# Altium footprint library GAP_Shield.PcbLib: 21 footprints (part 1 of 2)
Each footprint in its own frame and in the unit in brackets; x right, y up, seen from the top. Pads: shape width x height; smd on the part's side, far side on the other; paste and mask are expansions set on the pad; w line width, h text height; cw(c..) or ccw(c..) is an arc to the next point about the centre after c.
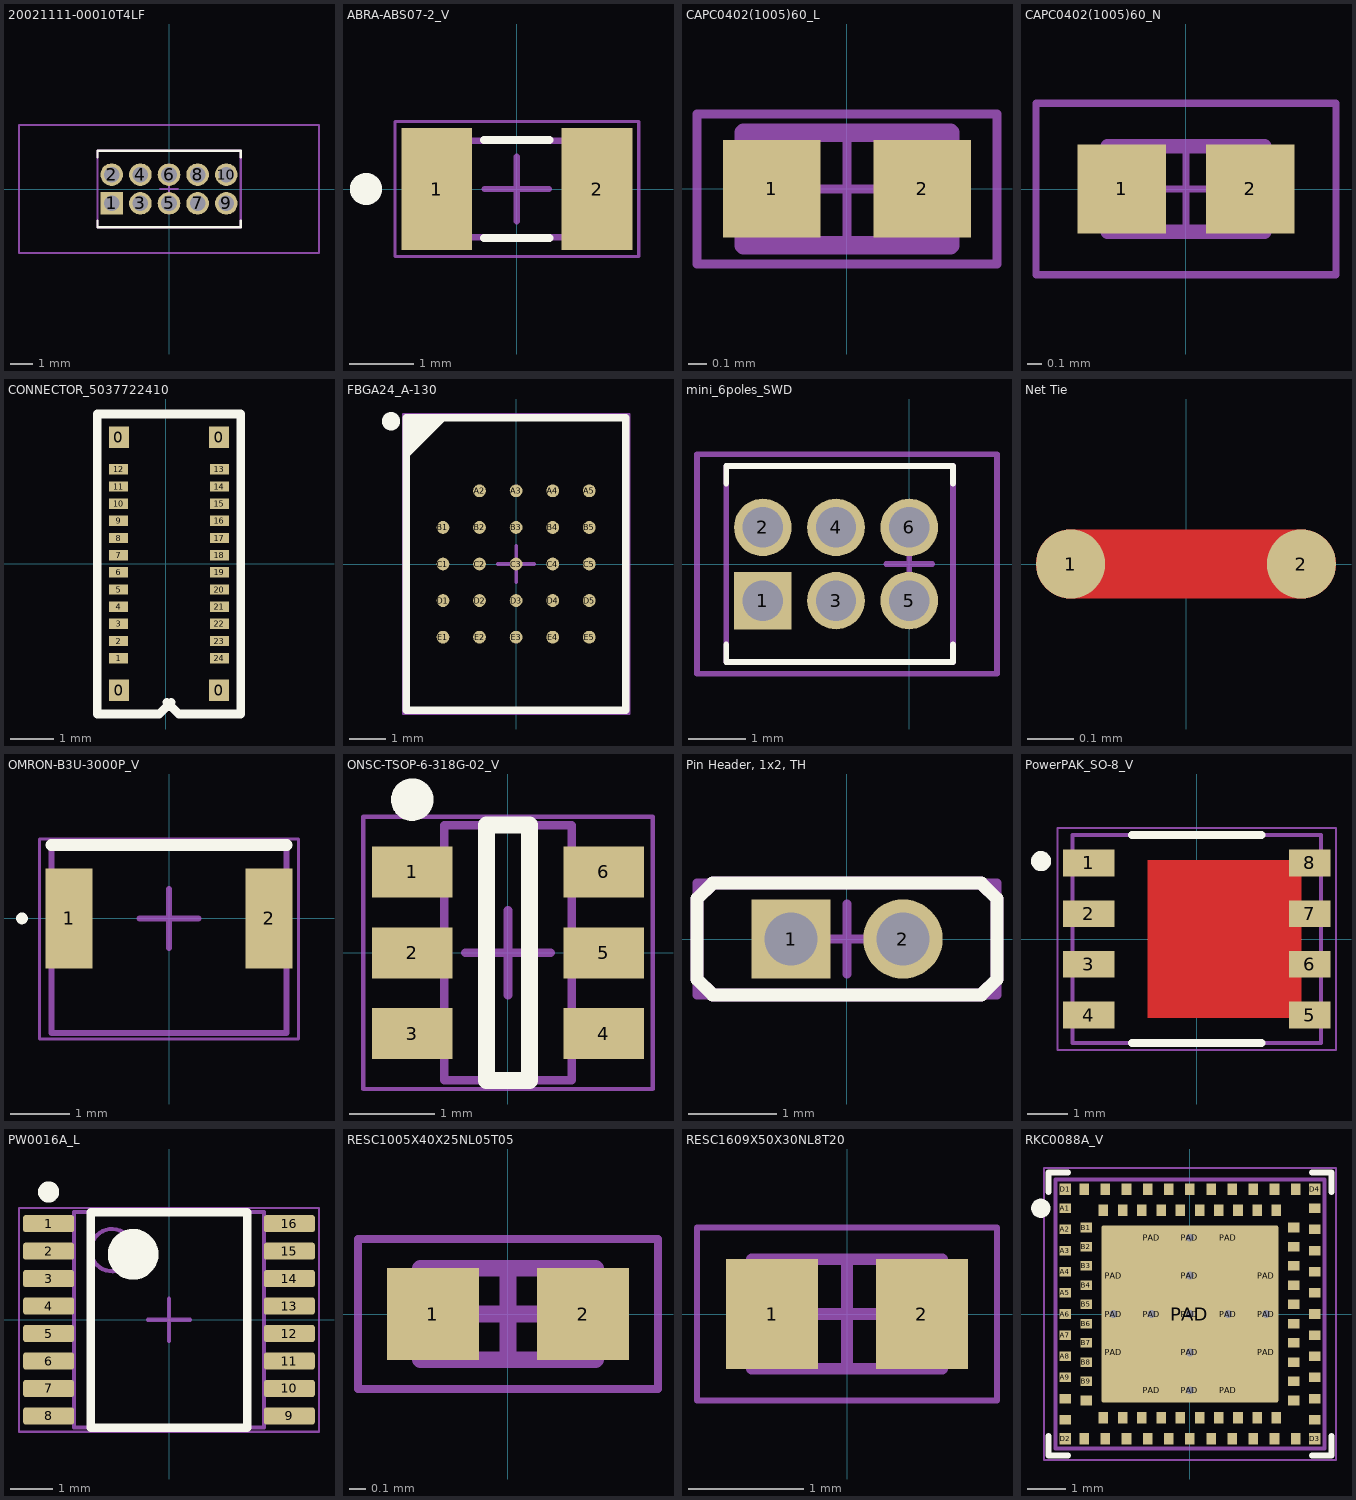
[diagram p0: the footprints below, top view; thin cyan lines are the x and y axes]

## 20021111-00010T4LF [mm] "Terminal Assembly, 2x5 Pin, Vertical, 1.27mm Pitch, Male"
height 5.55
pads (10):
  rect 1x1 hole 0.7: 1(-2.54,-0.635)
  round 1 hole 0.7: 2(-2.54,0.635) 3(-1.27,-0.635) 4(-1.27,0.635) 5(0,-0.635) 6(0,0.635) 7(1.27,-0.635) 8(1.27,0.635) 9(2.54,-0.635) 10(2.54,0.635)
Top Overlay:
  lines w0.1: -3.175,-1.397 -3.175,-1.7 3.175,-1.7 3.175,-1.397 ; -3.175,1.397 -3.175,1.7 3.175,1.7 3.175,1.397
Mechanical 12:
  lines w0.1: -3.175,-1.7 3.175,-1.7 3.175,1.7 -3.175,1.7 -3.175,-1.7
Mechanical 15:
  lines w0.1: -0.4,0 0.4,0 ; 0,-0.4 0,0.4 ; -6.65,-2.84 -6.35,-2.84 -3.81,-2.84 -1.27,-2.84 6.35,-2.84 6.65,-2.84 6.65,-2.54 6.65,2.54 6.65,2.84 6.35,2.84 -1.27,2.84 -3.81,2.84 -6.35,2.84 -6.65,2.84 -6.65,2.54 -6.65,-2.54 -6.65,-2.84
3D body: height 5.51, standoff -2.34, extent -3.175,-1.7 3.175,1.7

## ABRA-ABS07-2_V [mm] "Crystal, 2-Leads, Body 3.2x1.5mm, Pitch 2.5mm"
height 0.9
pads (2):
  rect 1.1x1.9 smd: 1(-1.25,0) 2(1.25,0)
Top Overlay:
  circle w0.25: c-2.35,0 r0.125
  lines w0.125: -0.508,-0.762 0.508,-0.762 ; -0.508,0.762 0.508,0.762
Mechanical 12:
  lines w0.1: -1.6,-0.75 1.6,-0.75 1.6,0.75 -1.6,0.75 -1.6,-0.75
Mechanical 15:
  lines w0.05: -1.9,-1.05 1.9,-1.05 1.9,1.05 -1.9,1.05 -1.9,-1.05
  lines w0.1: -0.5,0 0.5,0 ; 0,-0.5 0,0.5
3D body: height 0.9, standoff 0.01, extent -1.6,-0.749 1.6,0.749

## CAPC0402(1005)60_L [mm] "Chip Capacitor, Body 1.0x0.5mm, Height 0.6mm, IPC High Density"
height 0.6
pads (2):
  rect 0.52x0.52 smd: 1(-0.4,0) 2(0.4,0)
Mechanical 13:
  lines w0.1: -0.55,-0.3 -0.55,0.3 0.55,0.3 0.55,-0.3 -0.55,-0.3
Mechanical 15:
  lines w0.05: -0.3,0 0.3,0 ; 0,-0.3 0,0.3 ; -0.8,-0.4 -0.8,0.4 0.8,0.4 0.8,-0.4 -0.8,-0.4
3D body: height 0.6, standoff 0, extent -0.3,-0.3 0.3,0.3
3D body: height 0.6, standoff 0, extent -0.55,-0.3 -0.3,0.3
3D body: height 0.6, standoff 0, extent 0.3,-0.3 0.55,0.3

## CAPC0402(1005)60_N [mm] "Chip Capacitor, Body 1.0x0.5mm, Height 0.6mm, IPC Medium Density"
height 0.6
pads (2):
  rect 0.62x0.62 smd: 1(-0.45,0) 2(0.45,0)
Mechanical 13:
  lines w0.1: -0.55,-0.3 -0.55,0.3 0.55,0.3 0.55,-0.3 -0.55,-0.3
Mechanical 15:
  lines w0.05: -0.3,0 0.3,0 ; 0,-0.3 0,0.3 ; -1.05,-0.6 -1.05,0.6 1.05,0.6 1.05,-0.6 -1.05,-0.6
3D body: height 0.6, standoff 0, extent -0.3,-0.3 0.3,0.3
3D body: height 0.6, standoff 0, extent -0.55,-0.3 -0.3,0.3
3D body: height 0.6, standoff 0, extent 0.3,-0.3 0.55,0.3

## CONNECTOR_5037722410 [mm]
pads (28):
  rect 0.47x0.5 smd mask+0.102: 0(-1.09,2.95) 0(-1.09,-2.95) 0(1.24,-2.95) 0(1.24,2.95)
  rect 0.45x0.24 smd mask+0.025: 1(-1.1,-2.2) 2(-1.1,-1.8) 3(-1.1,-1.4) 4(-1.1,-1) 5(-1.1,-0.6) 6(-1.1,-0.2) 7(-1.1,0.2) 8(-1.1,0.6) 9(-1.1,1) 10(-1.1,1.4) 11(-1.1,1.8) 12(-1.1,2.2) 13(1.25,2.2) 14(1.25,1.8) 15(1.25,1.4) 16(1.25,1) 17(1.25,0.6) 18(1.25,0.2) 19(1.25,-0.2) 20(1.25,-0.6) 21(1.25,-1) 22(1.25,-1.4) 23(1.25,-1.8) 24(1.25,-2.2)
Top Overlay:
  lines w0.2: 0.025,-3.225 0.3,-3.5 1.75,-3.5 1.75,3.49 -1.6,3.49 -1.6,-3.5 -0.15,-3.5 0.125,-3.225

## FBGA24_A-130 [mm] "BGA, 24-Balls, Body 8x6mm, Pitch 1mm, A1 missing"
height 1.3
pads (24):
  round 0.35 smd paste-0.5: A2(-1,2) A3(0,2) A4(1,2) A5(2,2) B1(-2,1) B2(-1,1) B3(0,1) B4(1,1) B5(2,1) C1(-2,0) C2(-1,0) C3(0,0) C4(1,0) C5(2,0) D1(-2,-1) D2(-1,-1) D3(0,-1) D4(1,-1) D5(2,-1) E1(-2,-2) E2(-1,-2) E3(0,-2) E4(1,-2) E5(2,-2)
Top Overlay:
  circle w0.25: c-3.419,3.902 r0.125
  region: -2,4 -3,3 -3,4
  lines w0.2: -3,3 -2,4 ; -3,-4 3,-4 3,4 -3,4 -3,-4
Mechanical 12:
  lines w0.1: -3,-4 3,-4 3,4 -3,4 -3,-4
Mechanical 15:
  lines w0.05: -3.1,-4.1 3.1,-4.1 3.1,4.1 -3.1,4.1 -3.1,-4.1
  lines w0.1: -0.5,0 0.5,0 ; 0,-0.5 0,0.5
3D body: height 1.3, standoff 0, extent -3,-4 3,4

## mini_6poles_SWD [mm] "Terminal Assembly, 2x5 Pin, Vertical, 1.27mm Pitch, Male"
height 5.55
pads (6):
  rect 1x1 hole 0.7: 1(-2.54,-0.635)
  round 1 hole 0.7: 2(-2.54,0.635) 3(-1.27,-0.635) 4(-1.27,0.635) 5(0,-0.635) 6(0,0.635)
Top Overlay:
  lines w0.1: -3.175,-1.397 -3.175,-1.7 0.762,-1.7 0.762,-1.397 ; -3.175,1.397 -3.175,1.7 0.762,1.7 0.762,1.397
Mechanical 12:
  lines w0.1: -3.175,-1.7 -3.175,1.7 0.762,1.7 0.762,-1.7 -3.175,-1.7
Mechanical 15:
  lines w0.1: -0.4,0 0.4,0 ; 0,-0.4 0,0.4 ; -3.683,-1.905 -2.875,-1.905 -0.335,-1.905 1.524,-1.905 1.524,1.905 -0.335,1.905 -2.875,1.905 -3.683,1.905 -3.683,-1.905
3D body: height 0.51, standoff 0.25, extent -3.429,-1.651 1.27,1.778

## Net Tie [mm] "Net Tie, 0.15mm width, 0.5mm length"
pads (2):
  round 0.15 smd mask-0.2: 1(-0.25,0) 2(0.25,0)
Top Layer:
  lines w0.15: -0.25,0 0.25,0

## OMRON-B3U-3000P_V [mm] "SMD, 2-Leads, Body 4x3.2mm"
height 1.35
pads (2):
  rect 0.8x1.7 smd: 1(-1.7,0) 2(1.7,0)
Top Overlay:
  circle w0.1: c-2.5,0 r0.05
  lines w0.2: -2,1.25 2,1.25
Mechanical 13:
  lines w0.1: -2,-1.95 -2,1.25 2,1.25 2,-1.95 -2,-1.95
Mechanical 15:
  lines w0.05: -2.2,-2.05 2.2,-2.05 2.2,1.35 -2.2,1.35 -2.2,-2.05
  lines w0.1: -0.5,0 0.5,0 ; 0,-0.5 0,0.5
3D body: height 1.2, standoff 0, extent -2,-1.95 2,1.25

## ONSC-TSOP-6-318G-02_V [mm] "SOP, 6-Leads, Body 3x1.5mm, Pitch 0.95mm"
height 1.1
pads (6):
  rect 0.95x0.6 smd: 1(-1.125,0.95) 2(-1.125,0) 3(-1.125,-0.95) 4(1.125,-0.95) 5(1.125,0) 6(1.125,0.95)
Top Overlay:
  circle w0.25: c-1.125,1.8 r0.125
  lines w0.2: -0.25,-1.5 0.25,-1.5 0.25,1.5 -0.25,1.5 -0.25,-1.5
Mechanical 13:
  lines w0.1: -0.75,-1.5 0.75,-1.5 0.75,1.5 -0.75,1.5 -0.75,-1.5
Mechanical 15:
  lines w0.05: -1.7,-1.6 1.7,-1.6 1.7,1.6 -1.7,1.6 -1.7,-1.6
  lines w0.1: -0.5,0 0.5,0 ; 0,-0.5 0,0.5
3D body: height 1.1, standoff 0.01, extent -0.75,-1.5 0.75,1.5

## Pin Header, 1x2, TH [mm] "Terminal Assembly, 1x2 Pins, Vertical, 1.27mm Pitch, Male, TH"
height 3
pads (2):
  rect 0.9x0.9 hole 0.6: 1(-0.635,0)
  round 0.9 hole 0.6: 2(0.635,0)
Top Overlay:
  lines w0.15: -1.702,-0.457 -1.702,0.457 -1.524,0.635 -0.254,0.635 0.966,0.635 1.524,0.635 1.702,0.457 1.702,-0.457 1.524,-0.635 0.889,-0.635 -1.524,-0.635 -1.702,-0.457
Mechanical 12:
  lines w0.15: -1.702,-0.457 -1.702,0.457 -1.524,0.635 -0.254,0.635 0.966,0.635 1.524,0.635 1.702,0.457 1.702,-0.457 1.524,-0.635 0.889,-0.635 -1.524,-0.635 -1.702,-0.457
Mechanical 15:
  lines w0.1: -0.4,0 0.4,0 ; 0,-0.4 0,0.4 ; -1.702,-0.635 -1.702,0.635 1.702,0.635 1.702,-0.635 -1.702,-0.635
3D body: height 6.3, standoff -2.3, extent 0.435,-0.2 0.835,0.2
3D body: height 2.8, standoff 0, extent -1.702,-0.635 1.702,0.635
3D body: height 6.3, standoff -2.3, extent -0.835,-0.2 -0.435,0.2

## PowerPAK_SO-8_V [mm] "PowerPAK SO-8, 8-Leads, Body 6.15x5.15mm, Pitch 1.25mm"
height 1.12
pads (8):
  rect 1.27x0.66 smd: 1(-2.67,1.88) 2(-2.67,0.627) 3(-2.67,-0.627) 4(-2.67,-1.88)
  rect 1.02x0.66 smd: 5(2.795,-1.88) 6(2.795,-0.627) 7(2.795,0.627) 8(2.795,1.88)
Top Layer:
  rectangle: -1.215,-1.955 2.595,1.955
Top Overlay:
  circle w0.25: c-3.85,1.925 r0.125
  lines w0.2: -1.605,-2.576 1.605,-2.576 ; -1.605,2.574 1.605,2.574
Mechanical 12:
  lines w0.1: -3.075,-2.576 3.075,-2.576 3.075,2.574 -3.075,2.574 -3.075,-2.576
Mechanical 15:
  lines w0.05: -3.442,-2.75 -2.087,-2.75 1.972,-2.75 3.442,-2.75 3.442,-1.83 3.442,1.78 3.442,2.75 1.972,2.75 -2.087,2.75 -3.442,2.75 -3.442,1.78 -3.442,-1.83 -3.442,-2.75
  lines w0.1: -0.5,0 0.5,0 ; 0,-0.5 0,0.5
3D body: height 1.04, standoff 0, extent -3.075,-2.575 3.075,2.575

## PW0016A_L [mm] "SOP, 16-Leads, Body 5.1x4.5mm, Pitch 0.65mm, IPC High Density"
height 1.2
pads (16):
  rrect25% 1.2x0.4 smd: 1(-2.85,2.275) 2(-2.85,1.625) 3(-2.85,0.975) 4(-2.85,0.325) 5(-2.85,-0.325) 6(-2.85,-0.975) 7(-2.85,-1.625) 8(-2.85,-2.275) 9(2.85,-2.275) 10(2.85,-1.625) 11(2.85,-0.975) 12(2.85,-0.325) 13(2.85,0.325) 14(2.85,0.975) 15(2.85,1.625) 16(2.85,2.275)
Top Overlay:
  circle w0.6: c-0.85,1.55 r0.3
  circle w0.25: c-2.85,3.025 r0.125
  lines w0.2: -1.85,-2.55 1.85,-2.55 1.85,2.55 -1.85,2.55 -1.85,-2.55
Mechanical 13:
  circle w0.1: c-1.35,1.65 r0.5
  lines w0.1: -2.25,-2.55 2.25,-2.55 2.25,2.55 -2.25,2.55 -2.25,-2.55
Mechanical 15:
  lines w0.05: -3.55,-2.65 3.55,-2.65 3.55,2.65 -3.55,2.65 -3.55,-2.65
  lines w0.1: -0.5,0 0.5,0 ; 0,-0.5 0,0.5
3D body: height 1, standoff 0, extent -3.21,-2.5 3.21,2.5

## RESC1005X40X25NL05T05 [mm] "Chip Resistor, 2-Leads, Body 1.05x0.55mm, IPC Medium Density"
height 0.4
pads (2):
  rect 0.55x0.55 smd: 1(-0.45,0) 2(0.45,0)
Mechanical 13:
  lines w0.1: -0.525,-0.275 -0.525,0.275 0.525,0.275 0.525,-0.275 -0.525,-0.275
Mechanical 15:
  lines w0.05: -0.9,-0.45 -0.9,0.45 0.9,0.45 0.9,-0.45 -0.9,-0.45
  lines w0.1: -0.275,0 0.275,0 ; 0,-0.275 0,0.275
3D body: height 0.4, standoff 0, extent -0.525,-0.275 0.525,0.275

## RESC1609X50X30NL8T20 [mm] "Chip Resistor, 2-Leads, Body 1.65x0.95mm, IPC Medium Density"
height 0.5
pads (2):
  rect 0.8x0.95 smd: 1(-0.65,0) 2(0.65,0)
Mechanical 13:
  lines w0.1: -0.825,-0.475 -0.825,0.475 0.825,0.475 0.825,-0.475 -0.825,-0.475
Mechanical 15:
  lines w0.05: -1.3,-0.75 -1.3,0.75 1.3,0.75 1.3,-0.75 -1.3,-0.75
  lines w0.1: -0.475,0 0.475,0 ; 0,-0.475 0,0.475
3D body: height 0.5, standoff 0, extent -0.825,-0.475 0.825,0.475

## RKC0088A_V [mm] "QFN, 88-Leads, Body 7x7mm, Pitch 0.55mm, Thermal Pad 4.6x4.6mm, TI Recommend"
height 0.95
pads (106):
  rect 0.3x0.249 smd mask+0.035: A1(-3.25,2.75) A2(-3.25,2.2) A3(-3.25,1.65) A4(-3.25,1.1) A5(-3.25,0.55) A6(-3.25,0) A7(-3.25,-0.55) A8(-3.25,-1.1) A9(-3.25,-1.65) A10(-3.25,-2.2) A11(-3.25,-2.75) A23(3.25,-2.75) A24(3.25,-2.2) A25(3.25,-1.65) A26(3.25,-1.1) A27(3.25,-0.55) A28(3.25,0) A29(3.25,0.55) A30(3.25,1.1) A31(3.25,1.65) A32(3.25,2.2) A33(3.25,2.75) B1(-2.7,2.25) B2(-2.7,1.75) B3(-2.7,1.25) B4(-2.7,0.75) B5(-2.7,0.25) B6(-2.7,-0.25) B7(-2.7,-0.75) B8(-2.7,-1.25) B9(-2.7,-1.75) B10(-2.7,-2.25) B21(2.7,-2.25) B22(2.7,-1.75) B23(2.7,-1.25) B24(2.7,-0.75) B25(2.7,-0.25) B26(2.7,0.25) B27(2.7,0.75) B28(2.7,1.25) B29(2.7,1.75) B30(2.7,2.25)
  rect 0.249x0.3 smd mask+0.035: A12(-2.75,-3.25) A13(-2.2,-3.25) A14(-1.65,-3.25) A15(-1.1,-3.25) A16(-0.55,-3.25) A17(0,-3.25) A18(0.55,-3.25) A19(1.1,-3.25) A20(1.65,-3.25) A21(2.2,-3.25) A22(2.75,-3.25) A34(2.75,3.25) A35(2.2,3.25) A36(1.65,3.25) A37(1.1,3.25) A38(0.55,3.25) A39(0,3.25) A40(-0.55,3.25) A41(-1.1,3.25) A42(-1.65,3.25) A43(-2.2,3.25) A44(-2.75,3.25) B11(-2.25,-2.7) B12(-1.75,-2.7) B13(-1.25,-2.7) B14(-0.75,-2.7) B15(-0.25,-2.7) B16(0.25,-2.7) B17(0.75,-2.7) B18(1.25,-2.7) B19(1.75,-2.7) B20(2.25,-2.7) B31(2.25,2.7) B32(1.75,2.7) B33(1.25,2.7) B34(0.75,2.7) B35(0.25,2.7) B36(-0.25,2.7) B37(-0.75,2.7) B38(-1.25,2.7) B39(-1.75,2.7) B40(-2.25,2.7)
  rect 0.3x0.3 smd mask+0.035: D1(-3.25,3.25) D2(-3.25,-3.25) D3(3.25,-3.25) D4(3.25,3.25)
  round 0.5 hole 0.2 mask+0.035: PAD(-1.987,0) PAD(-1,0) PAD(0,-1.987) PAD(0,-1) PAD(0,0) PAD(0,1) PAD(0,1.987) PAD(1,0) PAD(1.987,0)
  rrect36% 0.275x1.7 smd mask+0.035: PAD(-1.987,-1) PAD(-1.987,1) PAD(1.987,-1) PAD(1.987,1)
  rrect36% 1.7x0.275 smd mask+0.035: PAD(-1,-1.987) PAD(-1,1.987) PAD(1,-1.987) PAD(1,1.987)
  rrect2% 4.6x4.6 smd paste-5 mask+0.035: PAD(0,0)
Top Overlay:
  circle w0.25: c-3.88,2.75 r0.125
  lines w0.15: -3.683,-3.175 -3.683,-3.683 -3.175,-3.683 ; -3.683,3.175 -3.683,3.683 -3.175,3.683 ; 3.175,-3.683 3.683,-3.683 3.683,-3.175 ; 3.175,3.683 3.683,3.683 3.683,3.175
Top Paste:
  rectangle: -1.379,0.1 -0.1,1.379
  rectangle: -1.379,-1.379 -0.1,-0.1
  rectangle: 0.1,-1.379 1.379,-0.1
  rectangle: 0.1,0.1 1.379,1.379
Mechanical 12:
  lines w0.1: -3.5,-3.5 -3.5,3.5 3.5,3.5 3.5,-3.5 -3.5,-3.5
Mechanical 15:
  lines w0.05: -3.8,-3.8 3.8,-3.8 3.8,3.8 -3.8,3.8 -3.8,-3.8
  lines w0.1: -0.5,0 0.5,0 ; 0,-0.5 0,0.5
3D body: height 0.95, standoff 0, extent -3.5,-3.5 3.5,3.5